# EAGLE library part ARDUINO-SHIELD-SIMPLE (library arduino-shield)
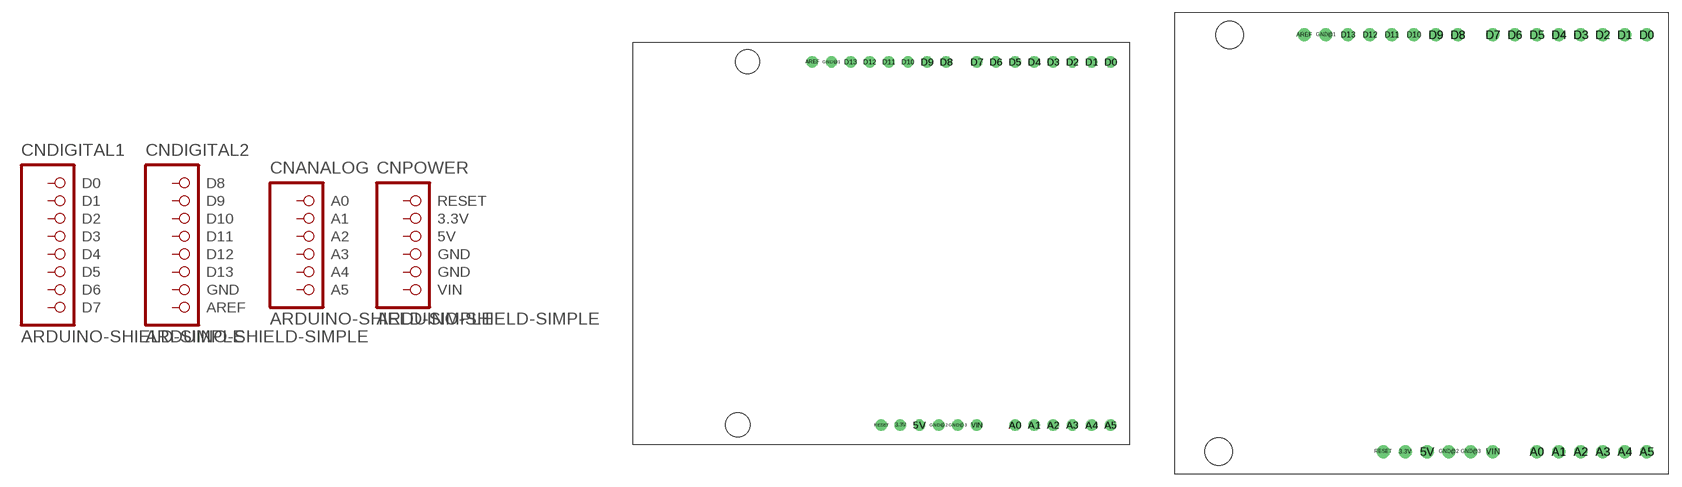
[diagram p2: symbol with the pads of ARDUINO-SHIELD-SIMPLE; footprints ARDUINO-SHIELD-SIMPLE, ARDUINO-SHIELD-SIMPLE-MINI]

Designator prefix CN; gates DIGITAL1=DIGITAL1 DIGITAL2=DIGITAL2 ANALOG=ANALOG POWER=POWER

## ARDUINO-SHIELD-SIMPLE-NORMAL  [ARDUINO-SHIELD-SIMPLE]
3.3V  POWER:3.3V  pas
5V  POWER:5V  pas
A0  ANALOG:A0  pas
A1  ANALOG:A1  pas
A2  ANALOG:A2  pas
A3  ANALOG:A3  pas
A4  ANALOG:A4  pas
A5  ANALOG:A5  pas
AREF  DIGITAL2:AREF  pas
D0  DIGITAL1:D0  pas
D1  DIGITAL1:D1  pas
D2  DIGITAL1:D2  pas
D3  DIGITAL1:D3  pas
D4  DIGITAL1:D4  pas
D5  DIGITAL1:D5  pas
D6  DIGITAL1:D6  pas
D7  DIGITAL1:D7  pas
D8  DIGITAL2:D8  pas
D9  DIGITAL2:D9  pas
D10  DIGITAL2:D10  pas
D11  DIGITAL2:D11  pas
D12  DIGITAL2:D12  pas
D13  DIGITAL2:D13  pas
GND@1  DIGITAL2:GND  pas
GND@2  POWER:GND  pas
GND@3  POWER:GND  pas
RESET  POWER:RESET  pas
VIN  POWER:VIN  pas

## ARDUINO-SHIELD-SIMPLE-MINI  [ARDUINO-SHIELD-SIMPLE-MINI]
Pads as for ARDUINO-SHIELD-SIMPLE

## ARDUINO-SHIELD-SIMPLE-MICRO  [ARDUINO-SHIELD-SIMPLE-MICRO]
Pads as for ARDUINO-SHIELD-SIMPLE

## Footprint ARDUINO-SHIELD-SIMPLE (pad centres in mm)
drill 1: 3.3V 35.56,2.54; 5V 38.1,2.54; A0 50.8,2.54; A1 53.34,2.54; A2 55.88,2.54; A3 58.42,2.54; A4 60.96,2.54; A5 63.5,2.54; AREF 23.876,50.8; D0 63.5,50.8; D1 60.96,50.8; D2 58.42,50.8; D3 55.88,50.8; D4 53.34,50.8; D5 50.8,50.8; D6 48.26,50.8; D7 45.72,50.8; D8 41.656,50.8; D9 39.116,50.8; D10 36.576,50.8; D11 34.036,50.8; D12 31.496,50.8; D13 28.956,50.8; GND@1 26.416,50.8; GND@2 40.64,2.54; GND@3 43.18,2.54; RESET 33.02,2.54; VIN 45.72,2.54
hole 3.2 at 15.24,50.8
hole 3.2 at 13.97,2.54

## Footprint ARDUINO-SHIELD-SIMPLE-MINI (pad centres in mm)
drill 1: 3.3V 26.67,2.54; 5V 29.21,2.54; A0 41.91,2.54; A1 44.45,2.54; A2 46.99,2.54; A3 49.53,2.54; A4 52.07,2.54; A5 54.61,2.54; AREF 14.986,50.8; D0 54.61,50.8; D1 52.07,50.8; D2 49.53,50.8; D3 46.99,50.8; D4 44.45,50.8; D5 41.91,50.8; D6 39.37,50.8; D7 36.83,50.8; D8 32.766,50.8; D9 30.226,50.8; D10 27.686,50.8; D11 25.146,50.8; D12 22.606,50.8; D13 20.066,50.8; GND@1 17.526,50.8; GND@2 31.75,2.54; GND@3 34.29,2.54; RESET 24.13,2.54; VIN 36.83,2.54
hole 3.2 at 6.35,50.8
hole 3.2 at 5.08,2.54

## Footprint ARDUINO-SHIELD-SIMPLE-MICRO (pad centres in mm)
drill 1: 3.3V 15.24,2.54; 5V 17.78,2.54; A0 30.48,2.54; A1 33.02,2.54; A2 35.56,2.54; A3 38.1,2.54; A4 40.64,2.54; A5 43.18,2.54; AREF 3.556,50.8; D0 43.18,50.8; D1 40.64,50.8; D2 38.1,50.8; D3 35.56,50.8; D4 33.02,50.8; D5 30.48,50.8; D6 27.94,50.8; D7 25.4,50.8; D8 21.336,50.8; D9 18.796,50.8; D10 16.256,50.8; D11 13.716,50.8; D12 11.176,50.8; D13 8.636,50.8; GND@1 6.096,50.8; GND@2 20.32,2.54; GND@3 22.86,2.54; RESET 12.7,2.54; VIN 25.4,2.54